# Altium schematic symbol library IC_Linear_Regulator.SchLib: 16 symbols
Pins are listed as number, name and electrical type; pins without a type are passive.

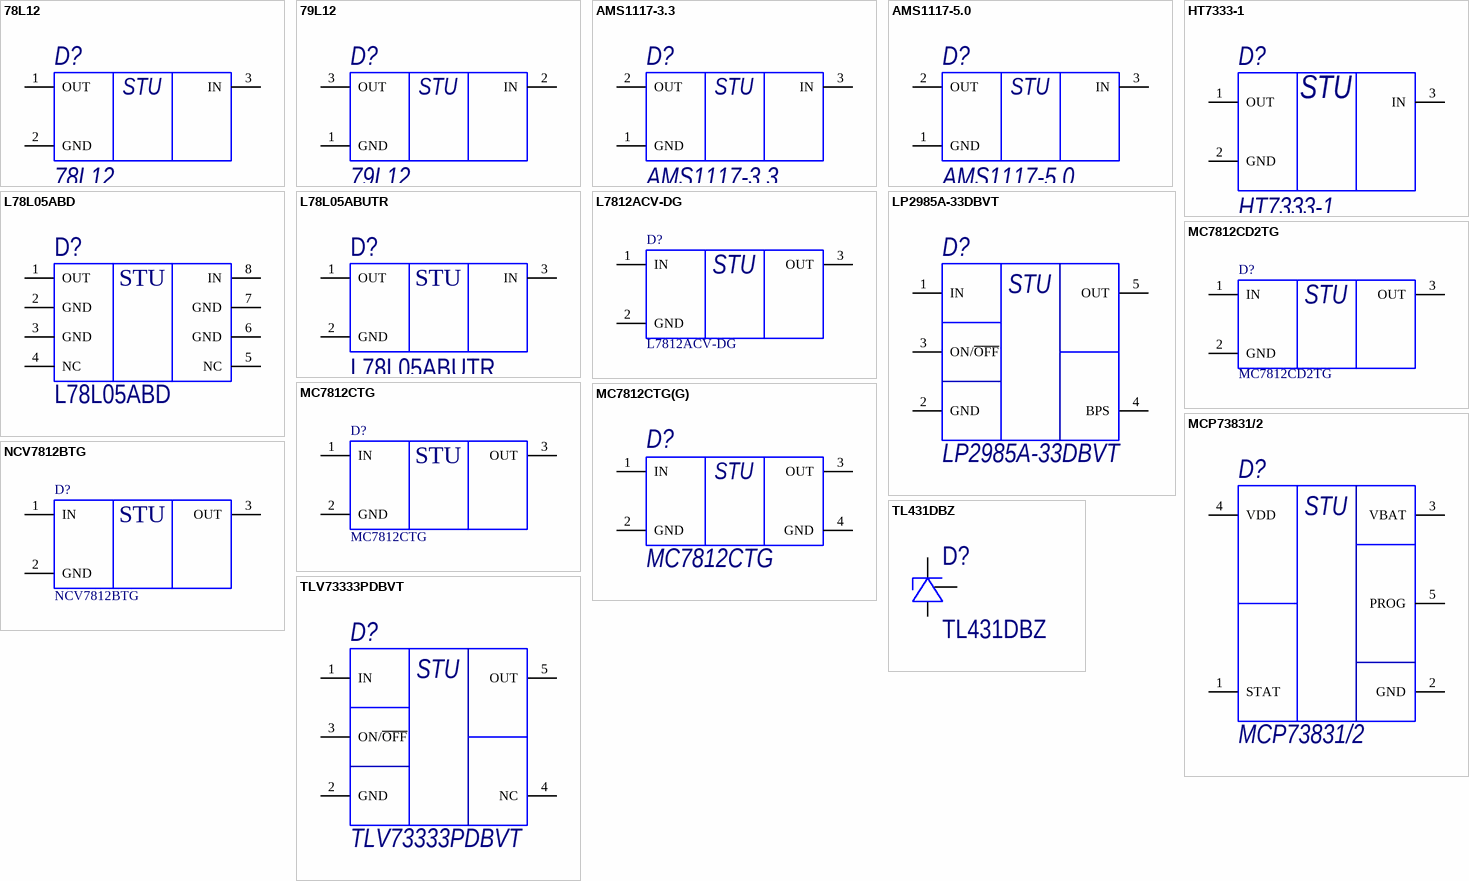
[diagram p0: symbols 78L12 to TLV73333PDBVT]

## 78L12
designator D?
Микросхема линейный регулятор; ComponentDescription: =ComponentType+', '+Comment+', '+Package; ComponentType: Микросхема линейный регулятор
footprint SOT-89 (SOT89, 3-Leads, Body 4,50x2,50mm, Pitch 1,50mm, Lead Span 4,1mm, IPC Medium Density)
footprint SOT-89_VER2
pins: 1 OUT, 2 GND, 3 IN
text: STU

## 79L12
designator D?
Микросхема линейный регулятор; ComponentDescription: =ComponentType+', '+Comment+', '+Package; ComponentType: Микросхема линейный регулятор
footprint SOT-89 (SOT89, 3-Leads, Body 4,50x2,50mm, Pitch 1,50mm, Lead Span 4,1mm, IPC Medium Density)
footprint SOT-89_VER2
pins: 1 GND, 2 IN, 3 OUT
text: STU

## AMS1117-3.3
designator D?
Микросхема линейный регулятор; ComponentDescription: =ComponentType+', '+Comment+', '+Package; ComponentType: Микросхема линейный регулятор
footprint SOT-223-4 (SOT223, 4-Leads, Body 6,50x7,00mm (avg), Pitch 2,30mm, IPC Medium Density)
pins: 1 GND, 2 OUT, 3 IN
text: STU

## AMS1117-5.0
designator D?
Микросхема линейный регулятор; ComponentDescription: =ComponentType+', '+Comment+', '+Package; ComponentType: Микросхема линейный регулятор
footprint SOT-223-4 (SOT223, 4-Leads, Body 6,50x7,00mm (avg), Pitch 2,30mm, IPC Medium Density)
pins: 1 GND, 2 OUT, 3 IN
text: STU

## HT7333-1
designator D?
Микросхема линейный регулятор; ComponentDescription: =ComponentType+', '+Comment+', '+Package; ComponentType: Микросхема линейный регулятор
footprint SOT-89 (SOT89, 3-Leads, Body 4,50x2,50mm, Pitch 1,50mm, Lead Span 4,1mm, IPC Medium Density)
footprint SOT-89_VER2
pins: 1 OUT, 2 GND, 3 IN
text: STU

## L78L05ABD
designator D?
Микросхема линейный регулятор; ComponentDescription: =ComponentType+', '+Comment+', '+Package; ComponentType: Микросхема линейный регулятор
footprint 8-SOIC (SOIC, 8-Leads, Body 4,90x3,90mm, Pitch 1,27mm, IPC Medium Density)
pins: 1 OUT, 2 GND, 3 GND, 4 NC, 5 NC, 6 GND, 7 GND, 8 IN
text: STU

## L78L05ABUTR
designator D?
Микросхема линейный регулятор; ComponentDescription: =ComponentType+', '+Comment+', '+Package; ComponentType: Микросхема линейный регулятор
footprint SOT-89 (SOT89, 3-Leads, Body 4,50x2,50mm, Pitch 1,50mm, Lead Span 4,1mm, IPC Medium Density)
footprint SOT-89_VER2
pins: 1 OUT, 2 GND, 3 IN
text: STU

## L7812ACV-DG
designator D?
Микросхема линейный регулятор; Manufacturer: STMicroelectronics; Output Voltage: 12V; Output Current: 1.5A; Max Input Voltage: 35V; Number of Outputs: 1; Polarity: Positive; Output Type: Fixed; Dropout Voltage: 2V; Quiescent Current: 6mA; Accuracy: 2%; ComponentDescription: =ComponentType+', '+Comment+', '+Package; ComponentType: Микросхема линейный регулятор; Supplier 1: Digi-Key; Manufacturer Part Number: L7812ACV-DG; RoHS: Yes; Category: Voltage Regulators - Linear; Stock 1: 3521; Pricing 1: 1=0,63000, 10=0,55600, 25=0,52240, 100=0,39610, 250=0,33708, 500=0,32022, 1000=0,24438, 2500=0,22753, 5000=0,21910 (USD); Mount: Through Hole; Case/Package: TO-220; Contact Plating: Tin; Min Operating Temperature: 0°C; Max Operating Temperature: 125°C; Packaging: Rail/Tube; Package Quantity: 50; Min Input Voltage: 35V; Number of Regulators: 1; Max Output Current: 1.5A; Series: -; Output Voltage Accuracy: 2%; Radiation Hardening: No; Lead Free: Lead Free; RoHS Compliant: Yes; ComponentLink1URL: https://datasheet.ciiva.com/17360/cd00000444-17360232.pdf?src-supplier=Avnet+Europe; ComponentLink1Description: https://datasheet.ciiva.com/17360/cd00000444-17360232.pdf?src-supplier=Avnet+Europe; Supplier Part Number 1: 497-13139-ND
footprint TO-220
footprint TO-220-1A 2.54
footprint TO-220-1A 5.08
footprint TO220-RA-600
footprint TO220-RA-650
pins: 1 IN, 2 GND, 3 OUT
text: STU

## LP2985A-33DBVT
designator D?
Микросхема линейный регулятор; Manufacturer: Texas Instruments; Number of Outputs: 1; Min Input Voltage: 2.2V; Output Voltage: 3.3V; Max Input Voltage: 16V; Max Output Current: 150mA; Polarity: Positive; Output Type: Fixed; Dropout Voltage: 280mV; Input Bias Current: 850uA; Output Voltage Accuracy: 1%; ComponentDescription: =ComponentType+', '+Comment+', '+Package; ComponentType: Микросхема линейный регулятор; Supplier 1: Digi-Key; Manufacturer Part Number: LP2985A-33DBVT; RoHS: Yes; Category: Voltage Regulators - Linear; Stock 1: 3232; Pricing 1: 1=0,60000, 10=0,53200, 25=0,49960, 100=0,37860 (USD); Case/Package: SOT-23; Number of Pins: 5; Min Operating Temperature: -40°C; Max Operating Temperature: 125°C; Packaging: Tape and Reel; Output Current: 150mA; Package Quantity: 1; Number of Regulators: 1; Quiescent Current: 850uA; Accuracy: 1%; Series: -; Nominal Output Voltage: 3.3V; Length: 2.9mm; Width: 1.6mm; Height: 1.15mm; Radiation Hardening: No; Lead Free: Lead Free; RoHS Compliant: Yes; ComponentLink1URL: https://datasheet.ciiva.com/2062/lp2985a-33-2062277.pdf?src-supplier=Digi-Key; ComponentLink1Description: https://datasheet.ciiva.com/2062/lp2985a-33-2062277.pdf?src-supplier=Digi-Key; ComponentLink2URL: https://datasheet.ciiva.com/2062/lp2985a-33-2062278.pdf?src-supplier=Digi-Key; ComponentLink2Description: https://datasheet.ciiva.com/2062/lp2985a-33-2062278.pdf?src-supplier=Digi-Key; ComponentLink3URL: https://datasheet.ciiva.com/2062/lp2985a-33-2062279.pdf?src-supplier=Digi-Key; ComponentLink3Description: https://datasheet.ciiva.com/2062/lp2985a-33-2062279.pdf?src-supplier=Digi-Key; Supplier Part Number 1: 296-26127-1-ND
footprint SOT-23-5 (SOT23, 5-Leads, Body 2,90x2,30mm, Pitch 0,95mm, IPC Medium Density)
pins: 1 IN, 2 GND, 3 ON/~{OFF}, 4 BPS, 5 OUT
text: STU

## MC7812CD2TG
designator D?
Микросхема линейный регулятор; Manufacturer: STMicroelectronics; Manufacturer Part Number: L7812ACV-DG; Output Voltage: 12V; Output Current: 1.5A; Max Input Voltage: 35V; Number of Outputs: 1; Polarity: Positive; Output Type: Fixed; Dropout Voltage: 2V; Quiescent Current: 6mA; Accuracy: 2%; ComponentDescription: =ComponentType+', '+Comment+', '+Package; ComponentType: Микросхема линейный регулятор; Supplier 1: Digi-Key; RoHS: Yes; Category: Voltage Regulators - Linear; Stock 1: 3521; Pricing 1: 1=0,63000, 10=0,55600, 25=0,52240, 100=0,39610, 250=0,33708, 500=0,32022, 1000=0,24438, 2500=0,22753, 5000=0,21910 (USD); Mount: Through Hole; Case/Package: TO-220; Contact Plating: Tin; Min Operating Temperature: 0°C; Max Operating Temperature: 125°C; Packaging: Rail/Tube; Package Quantity: 50; Min Input Voltage: 35V; Number of Regulators: 1; Max Output Current: 1.5A; Series: -; Output Voltage Accuracy: 2%; Radiation Hardening: No; Lead Free: Lead Free; RoHS Compliant: Yes; ComponentLink1URL: https://datasheet.ciiva.com/17360/cd00000444-17360232.pdf?src-supplier=Avnet+Europe; ComponentLink1Description: https://datasheet.ciiva.com/17360/cd00000444-17360232.pdf?src-supplier=Avnet+Europe; Supplier Part Number 1: 497-13139-ND
footprint TO-263-3
pins: 1 IN, 2 GND, 3 OUT
text: STU

## MC7812CTG
designator D?
Микросхема линейный регулятор; Manufacturer: ON Semiconductor; Number of Outputs: 1; Output Current: 1A; Max Input Voltage: 35V; Output Voltage: 12V; Polarity: Positive; Output Type: Fixed; Dropout Voltage: 2V; Min Input Voltage: 14V; Quiescent Current: 6.5mA; Accuracy: 4%; Power Supply Rejection Ratio (PSRR): 60dB; Max Supply Voltage: 27V; Min Supply Voltage: 14.5V; ComponentDescription: =ComponentType+', '+Comment+', '+Package; ComponentType: Микросхема линейный регулятор; Supplier 1: Digi-Key; Manufacturer Part Number: MC7812CTG; RoHS: Yes; Category: Voltage Regulators - Linear; Stock 1: 5945; Pricing 1: 1=0,68000, 10=0,57900, 25=0,54000, 100=0,40130, 250=0,33952, 500=0,32410, 1000=0,23922, 2500=0,22379, 5000=0,20835 (USD); Mount: Through Hole; Case/Package: TO-220; Number of Pins: 3; Weight: 0.211644oz; Min Operating Temperature: 0°C; Max Operating Temperature: 125°C; Packaging: Rail/Tube; Package Quantity: 50; Number of Regulators: 1; Max Output Current: 1A; Series: -; Output Voltage Accuracy: 4%; Nominal Output Voltage: 12V; Voltage: 12V; Max Output Voltage: 12V; Tolerance: 4%; Length: 0.404inch; Width: 0.19inch; Height: 0.62inch; Radiation Hardening: No; Lead Free: Lead Free; RoHS Compliant: Yes; REACH SVHC: No SVHC; Halogen Free: Halogen Free; ComponentLink1URL: https://datasheet.ciiva.com/14149/bxonsemico-spanregler-positiv-mc78-en-14149792.pdf?src-supplier=Distrelec; ComponentLink1Description: https://datasheet.ciiva.com/14149/bxonsemico-spanregler-positiv-mc78-en-14149792.pdf?src-supplier=Distrelec; ComponentLink2URL: https://datasheet.ciiva.com/27050/876441-27050588.pdf?src-supplier=Jameco; ComponentLink2Description: https://datasheet.ciiva.com/27050/876441-27050588.pdf?src-supplier=Jameco; ComponentLink3URL: https://datasheet.ciiva.com/48475/mc7800-d-48475127.pdf?src-supplier=Avnet; ComponentLink3Description: https://datasheet.ciiva.com/48475/mc7800-d-48475127.pdf?src-supplier=Avnet; ComponentLink4URL: https://datasheet.ciiva.com/25979/mc7800-d-25979784.pdf?src-supplier=Avnet+Europe; ComponentLink4Description: https://datasheet.ciiva.com/25979/mc7800-d-25979784.pdf?src-supplier=Avnet+Europe; ComponentLink5URL: https://datasheet.ciiva.com/8073/87758-8073855.pdf?src-supplier=Element14; ComponentLink5Description: https://datasheet.ciiva.com/8073/87758-8073855.pdf?src-supplier=Element14; ComponentLink6URL: https://datasheet.ciiva.com/1512/76526-1512162.pdf?src-supplier=Element14; ComponentLink6Description: https://datasheet.ciiva.com/1512/76526-1512162.pdf?src-supplier=Element14; ComponentLink7URL: https://datasheet.ciiva.com/2043/mc7800-d-2043813.pdf?src-supplier=Digi-Key; ComponentLink7Description: https://datasheet.ciiva.com/2043/mc7800-d-2043813.pdf?src-supplier=Digi-Key; ComponentLink8URL: https://datasheet.ciiva.com/18404/70099621-18404038.pdf?src-supplier=Allied+Electronics; ComponentLink8Description: https://datasheet.ciiva.com/18404/70099621-18404038.pdf?src-supplier=Allied+Electronics; ComponentLink9URL: https://datasheet.ciiva.com/22651/1878412-22651164.pdf?src-supplier=Element14; ComponentLink9Description: https://datasheet.ciiva.com/22651/1878412-22651164.pdf?src-supplier=Element14; Supplier Part Number 1: MC7812CTGOS-ND
footprint TO-220
footprint TO-220-1A 2.54
footprint TO-220-1A 5.08
footprint TO220-RA-600
footprint TO220-RA-650
footprint TO220-G-TYPE1; pin to pad 2>2+4
pins: 1 IN, 2 GND, 3 OUT
text: STU

## MC7812CTG(G)
designator D?, comment MC7812CTG
Микросхема линейный регулятор; Manufacturer: ON Semiconductor; Number of Outputs: 1; Output Current: 1A; Max Input Voltage: 35V; Output Voltage: 12V; Polarity: Positive; Output Type: Fixed; Dropout Voltage: 2V; Min Input Voltage: 14V; Quiescent Current: 6.5mA; Accuracy: 4%; Power Supply Rejection Ratio (PSRR): 60dB; Max Supply Voltage: 27V; Min Supply Voltage: 14.5V; ComponentDescription: =ComponentType+', '+Comment+', '+Package; ComponentType: Микросхема линейный регулятор; Supplier 1: Digi-Key; Manufacturer Part Number: MC7812CTG; RoHS: Yes; Category: Voltage Regulators - Linear; Stock 1: 5945; Pricing 1: 1=0,68000, 10=0,57900, 25=0,54000, 100=0,40130, 250=0,33952, 500=0,32410, 1000=0,23922, 2500=0,22379, 5000=0,20835 (USD); Mount: Through Hole; Case/Package: TO-220; Number of Pins: 3; Weight: 0.211644oz; Min Operating Temperature: 0°C; Max Operating Temperature: 125°C; Packaging: Rail/Tube; Package Quantity: 50; Number of Regulators: 1; Max Output Current: 1A; Series: -; Output Voltage Accuracy: 4%; Nominal Output Voltage: 12V; Voltage: 12V; Max Output Voltage: 12V; Tolerance: 4%; Length: 0.404inch; Width: 0.19inch; Height: 0.62inch; Radiation Hardening: No; Lead Free: Lead Free; RoHS Compliant: Yes; REACH SVHC: No SVHC; Halogen Free: Halogen Free; ComponentLink1URL: https://datasheet.ciiva.com/14149/bxonsemico-spanregler-positiv-mc78-en-14149792.pdf?src-supplier=Distrelec; ComponentLink1Description: https://datasheet.ciiva.com/14149/bxonsemico-spanregler-positiv-mc78-en-14149792.pdf?src-supplier=Distrelec; ComponentLink2URL: https://datasheet.ciiva.com/27050/876441-27050588.pdf?src-supplier=Jameco; ComponentLink2Description: https://datasheet.ciiva.com/27050/876441-27050588.pdf?src-supplier=Jameco; ComponentLink3URL: https://datasheet.ciiva.com/48475/mc7800-d-48475127.pdf?src-supplier=Avnet; ComponentLink3Description: https://datasheet.ciiva.com/48475/mc7800-d-48475127.pdf?src-supplier=Avnet; ComponentLink4URL: https://datasheet.ciiva.com/25979/mc7800-d-25979784.pdf?src-supplier=Avnet+Europe; ComponentLink4Description: https://datasheet.ciiva.com/25979/mc7800-d-25979784.pdf?src-supplier=Avnet+Europe; ComponentLink5URL: https://datasheet.ciiva.com/8073/87758-8073855.pdf?src-supplier=Element14; ComponentLink5Description: https://datasheet.ciiva.com/8073/87758-8073855.pdf?src-supplier=Element14; ComponentLink6URL: https://datasheet.ciiva.com/1512/76526-1512162.pdf?src-supplier=Element14; ComponentLink6Description: https://datasheet.ciiva.com/1512/76526-1512162.pdf?src-supplier=Element14; ComponentLink7URL: https://datasheet.ciiva.com/2043/mc7800-d-2043813.pdf?src-supplier=Digi-Key; ComponentLink7Description: https://datasheet.ciiva.com/2043/mc7800-d-2043813.pdf?src-supplier=Digi-Key; ComponentLink8URL: https://datasheet.ciiva.com/18404/70099621-18404038.pdf?src-supplier=Allied+Electronics; ComponentLink8Description: https://datasheet.ciiva.com/18404/70099621-18404038.pdf?src-supplier=Allied+Electronics; ComponentLink9URL: https://datasheet.ciiva.com/22651/1878412-22651164.pdf?src-supplier=Element14; ComponentLink9Description: https://datasheet.ciiva.com/22651/1878412-22651164.pdf?src-supplier=Element14; Supplier Part Number 1: MC7812CTGOS-ND
footprint TO220-RA-650
pins: 1 IN, 2 GND, 3 OUT, 4 GND
text: STU

## MCP73831/2
designator D?
Miniature Single-Cell, Fully Integrated Li-Ion,  Li-Polymer Charge Management Controllers; Цена,$: 0.6190; https://: https://sds.compel.ru/infosheet/TI/TPS78233DDCT
footprint SOT-23-5 (SOT23, 5-Leads, Body 2,90x2,30mm, Pitch 0,95mm, IPC Medium Density)
pins: 1 STAT, 2 GND, 3 VBAT, 4 VDD, 5 PROG
text: STU

## NCV7812BTG
designator D?
Микросхема линейный регулятор; Manufacturer: ON Semiconductor; Output Voltage: 12V; Output Current: 1A; Max Input Voltage: 35V; Number of Outputs: 1; Polarity: Positive; Output Type: Fixed; Min Input Voltage: 14V; Dropout Voltage: 2V; Quiescent Current: 8mA; Accuracy: 4%; Power Supply Rejection Ratio (PSRR): 60dB; ComponentDescription: =ComponentType+', '+Comment+', '+Package; ComponentType: Микросхема линейный регулятор; Supplier 1: Digi-Key; Manufacturer Part Number: NCV7812BTG; RoHS: Yes; Category: Voltage Regulators - Linear; Stock 1: 805; Pricing 1: 1=0,60000, 10=0,53100, 25=0,49920, 100=0,37840, 250=0,32204, 500=0,30592, 1000=0,23347, 2500=0,21737, 5000=0,20932 (USD); Mount: Through Hole; Case/Package: TO-220; Number of Pins: 3; Min Operating Temperature: -40°C; Max Operating Temperature: 125°C; Packaging: Rail/Tube; Package Quantity: 50; Number of Regulators: 1; Max Output Current: 1A; Series: Automotive, AEC-Q100; Output Voltage Accuracy: 4%; Min Output Voltage: 12V; Output Configuration: Positive; Length: 10.28mm; Width: 4.82mm; Height: 15.75mm; Lead Free: Lead Free; RoHS Compliant: Yes; ComponentLink1URL: https://datasheet.ciiva.com/2060/mc7800-d-2060078.pdf?src-supplier=Digi-Key; ComponentLink1Description: https://datasheet.ciiva.com/2060/mc7800-d-2060078.pdf?src-supplier=Digi-Key; ComponentLink2URL: https://datasheet.ciiva.com/8232/mc7800-d-8232046.pdf?src-supplier=Avnet; ComponentLink2Description: https://datasheet.ciiva.com/8232/mc7800-d-8232046.pdf?src-supplier=Avnet; Supplier Part Number 1: NCV7812BTGOS-ND
footprint TO-220
footprint TO-220-1A 2.54
footprint TO-220-1A 5.08
footprint TO220-RA-600
footprint TO220-RA-650
pins: 1 IN, 2 GND, 3 OUT
text: STU

## TL431DBZ
designator D?
Микросхема ИОН; ComponentDescription: =ComponentType+', '+Comment+', '+Package; ComponentType: Микросхема ИОН
footprint SOT-23-3 (SOT23, 3-Leads, Body 2,90x2,30mm, Pitch 0,95mm, IPC Medium Density)
pins: 1 K, 2 R, 3 A

## TLV73333PDBVT
designator D?
Микросхема линейный регулятор; Manufacturer: Texas Instruments; Manufacturer Part Number: LP2985A-33DBVT; Number of Outputs: 1; Min Input Voltage: 2.2V; Output Voltage: 3.3V; Max Input Voltage: 16V; Max Output Current: 150mA; Polarity: Positive; Output Type: Fixed; Dropout Voltage: 280mV; Input Bias Current: 850uA; Output Voltage Accuracy: 1%; ComponentDescription: =ComponentType+', '+Comment+', '+Package; ComponentType: Микросхема линейный регулятор; Supplier 1: Digi-Key; RoHS: Yes; Category: Voltage Regulators - Linear; Stock 1: 3232; Pricing 1: 1=0,60000, 10=0,53200, 25=0,49960, 100=0,37860 (USD); Case/Package: SOT-23; Number of Pins: 5; Min Operating Temperature: -40°C; Max Operating Temperature: 125°C; Packaging: Tape and Reel; Output Current: 150mA; Package Quantity: 1; Number of Regulators: 1; Quiescent Current: 850uA; Accuracy: 1%; Series: -; Nominal Output Voltage: 3.3V; Length: 2.9mm; Width: 1.6mm; Height: 1.15mm; Radiation Hardening: No; Lead Free: Lead Free; RoHS Compliant: Yes; ComponentLink1URL: https://datasheet.ciiva.com/2062/lp2985a-33-2062277.pdf?src-supplier=Digi-Key; ComponentLink1Description: https://datasheet.ciiva.com/2062/lp2985a-33-2062277.pdf?src-supplier=Digi-Key; ComponentLink2URL: https://datasheet.ciiva.com/2062/lp2985a-33-2062278.pdf?src-supplier=Digi-Key; ComponentLink2Description: https://datasheet.ciiva.com/2062/lp2985a-33-2062278.pdf?src-supplier=Digi-Key; ComponentLink3URL: https://datasheet.ciiva.com/2062/lp2985a-33-2062279.pdf?src-supplier=Digi-Key; ComponentLink3Description: https://datasheet.ciiva.com/2062/lp2985a-33-2062279.pdf?src-supplier=Digi-Key; Supplier Part Number 1: 296-26127-1-ND
footprint SOT-23-5 (SOT23, 5-Leads, Body 2,90x2,30mm, Pitch 0,95mm, IPC Medium Density)
pins: 1 IN, 2 GND, 3 ON/~{OFF}, 4 NC, 5 OUT
text: STU